# Altium schematic symbol library HBHR-B2-10-VG-SMT.SchLib: 1 symbol
Pins are listed as number, name and electrical type; pins without a type are passive.

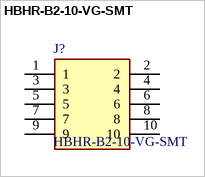
[diagram p0: symbol HBHR-B2-10-VG-SMT]

## HBHR-B2-10-VG-SMT
designator J?
Socket; IDC; male; PIN: 10; vertical; SMT; 1.27mm; Layout: 2x5; Manufacturer_Name: Adam Tech; Geometry.Height: 6.081mm; TME Electronic Components Part Number: *; TME Electronic Components Price/Stock: *; Manufacturer_Part_Number: HBHR-B2-10-VG-SMT; Datasheet Link: https://www.tme.eu/Document/f0773974da5cb69f05b89f0736d15334/HBHR-B2-XX-VG-SMT.pdf
footprint HBHRB210VGSMT
pins: 1, 2, 3, 4, 5, 6, 7, 8, 9, 10